# EAGLE library part TDA7375 (library Audio-Power-amlifier V.2.0)
The TDA7375A is a new technology class AB car radio amplifier able to work either in DUAL BRIDGE or QUAD SINGLE ENDED configuration. The exclusive fully complementary structure of the output stage and the internally fixed gain guarantee the highest power performances with extremely reduced component count. The on board clip detector simplifies gain compression operation. The fault diagnostic makes it possible to detect mistakes during car radio set assembly and wiring in the car.
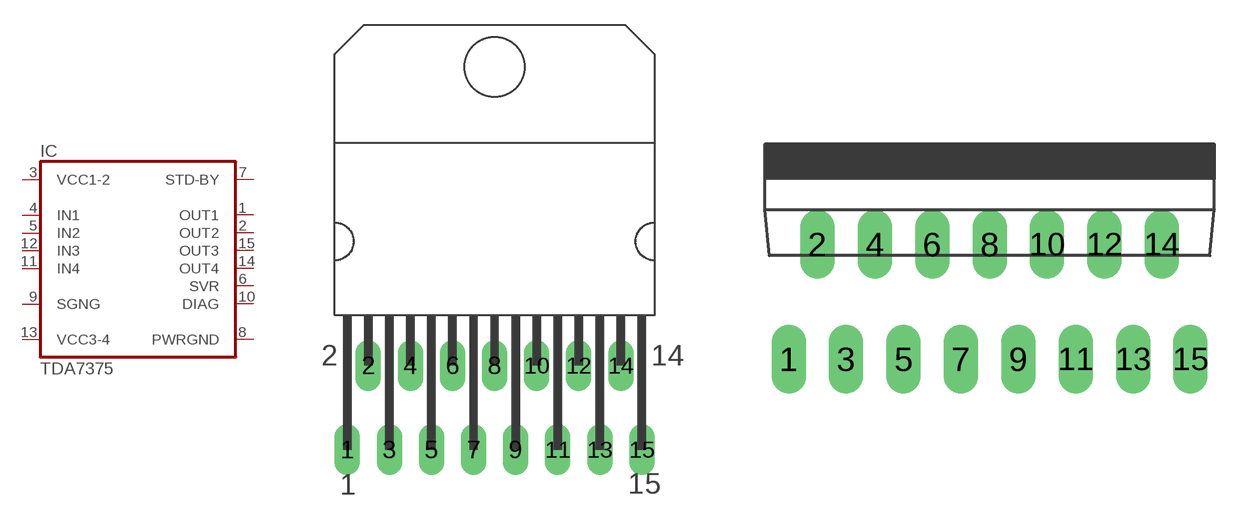
[diagram p15: symbol with the pads of MULTIWATT-15H; footprints MULTIWATT-15H, MULTIWATT-15V]

Designator prefix IC

## TDA7375H  [MULTIWATT-15H]
1  OUT1  out
2  OUT2  out
3  VCC1-2  pwr
4  IN1  in
5  IN2  in
6  SVR  pas
7  STD-BY  in
8  PWRGND  pwr
9  SGNG  pwr
10  DIAG  pas
11  IN4  in
12  IN3  in
13  VCC3-4  pwr
14  OUT4  out
15  OUT3  out

## TDA7375V  [MULTIWATT-15V]
Pads as for MULTIWATT-15H

## Footprint MULTIWATT-15H (pad centres in mm)
Multiwatt 15 horizontal
drill 1.016 long: 1 -8.89,-5.08; 2 -7.62,0; 3 -6.35,-5.08; 4 -5.08,0; 5 -3.81,-5.08; 6 -2.54,0; 7 -1.27,-5.08; 8 0,0; 9 1.27,-5.08; 10 2.54,0; 11 3.81,-5.08; 12 5.08,0; 13 6.35,-5.08; 14 7.62,0; 15 8.89,-5.08

## Footprint MULTIWATT-15V (pad centres in mm)
Multiwatt 15 vertical
drill 1.016 long: 1 -8.89,-5.08; 2 -7.62,0; 3 -6.35,-5.08; 4 -5.08,0; 5 -3.81,-5.08; 6 -2.54,0; 7 -1.27,-5.08; 8 0,0; 9 1.27,-5.08; 10 2.54,0; 11 3.81,-5.08; 12 5.08,0; 13 6.35,-5.08; 14 7.62,0; 15 8.89,-5.08